# Altium integrated library Linear Technology Power Management Switching Regulator LTC1174-LTC3901.IntLib: 2647 symbols (part 21 of 364)
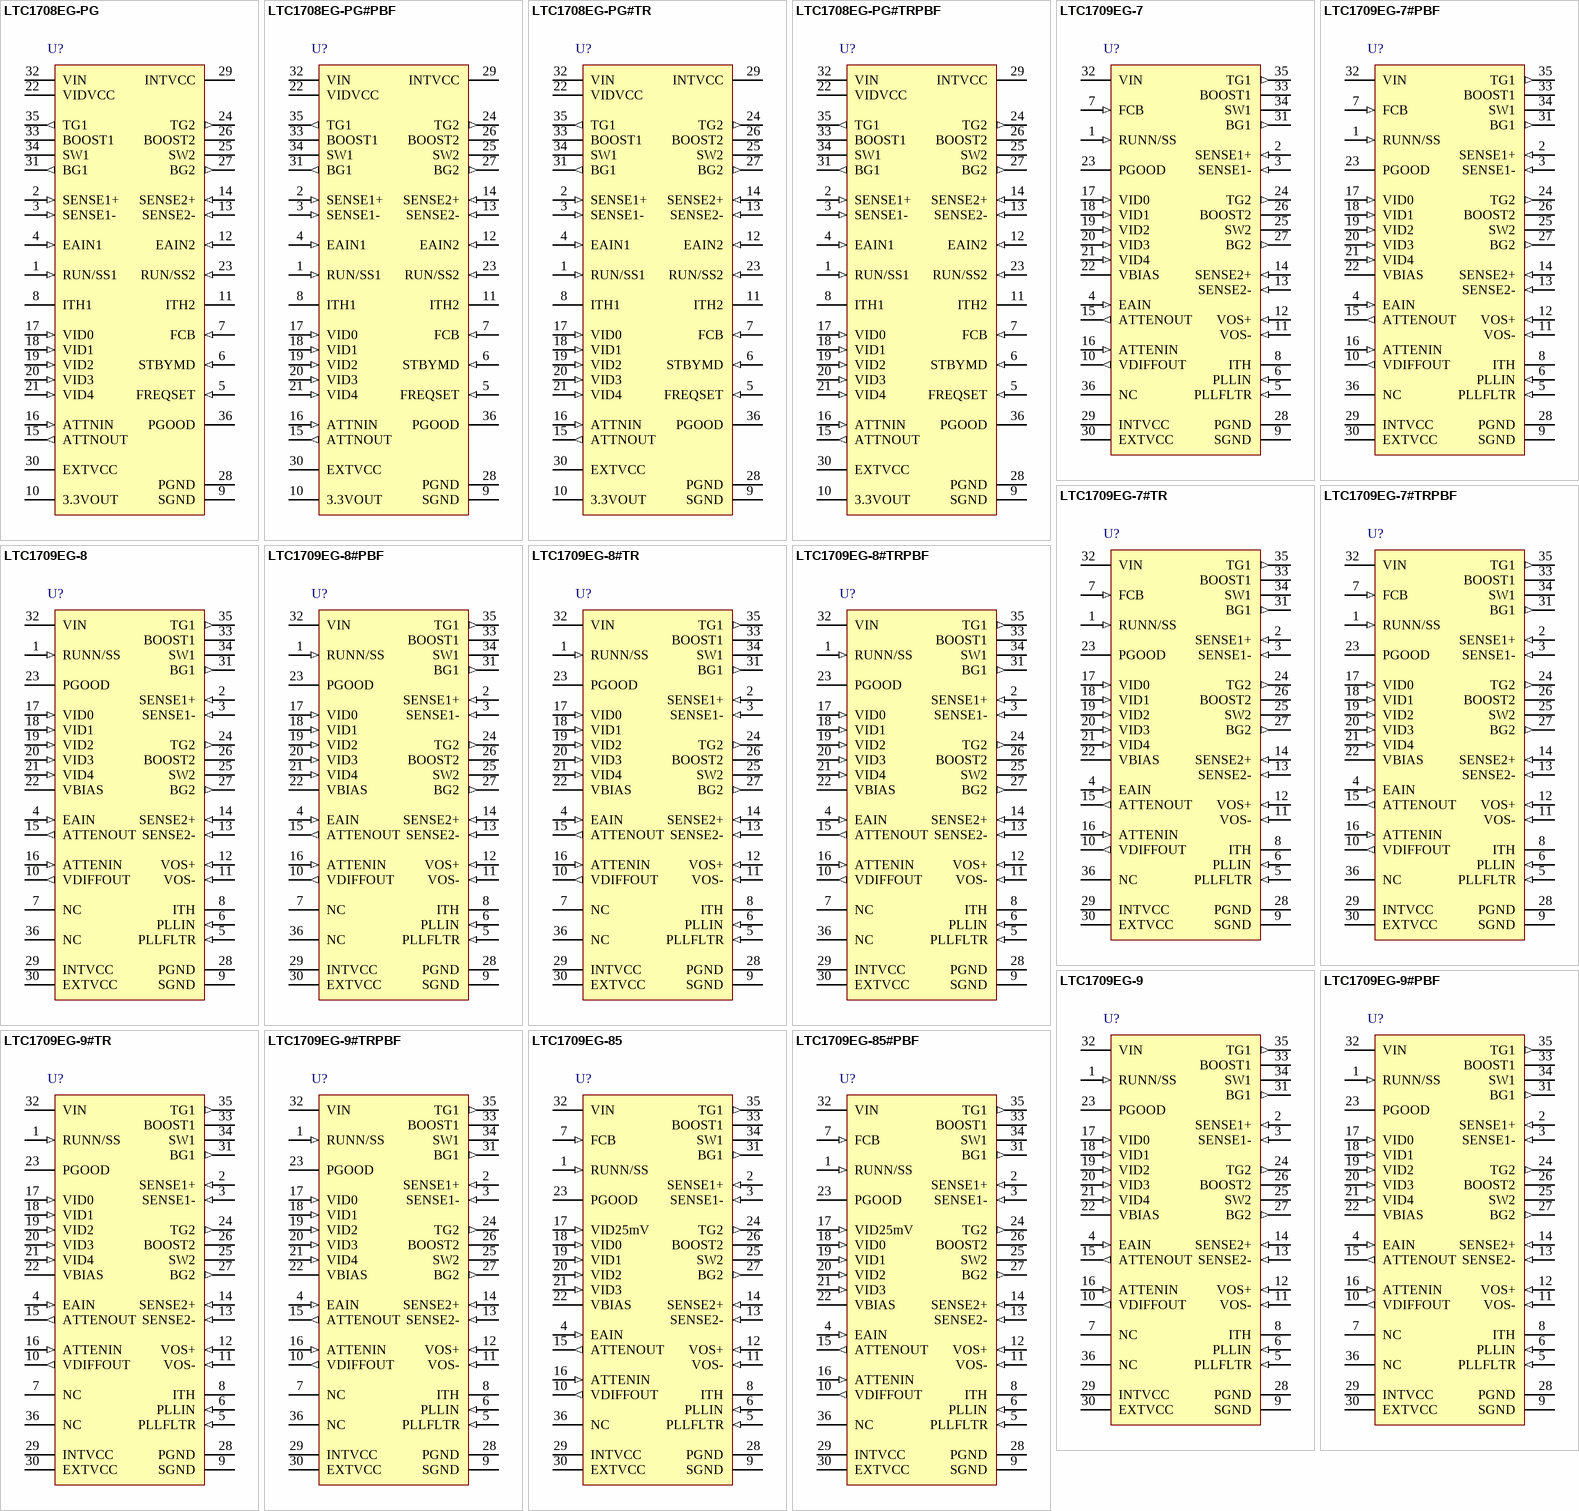
[diagram p126: symbols LTC1708EG-PG to LTC1709EG-85#PBF]

## LTC1709EG-7#TRPBF
designator U?
2-Phase, 5-Bit VID, Current Mode, High Efficiency, Synchronous Step-Down Switching Regulator, 36-pin SOP (G-36), -40 to 85 degC, Pb-Free, Tape and Reel; Manufacturer: Linear Technology; PartNumber: LTC1709EG-7#TRPBF; Number of Outputs: 1; PackageReference: G-36; PackageDescription: 36-Pin Plastic SSOP, Body 12.8 x 5.3 mm, Pitch 0.65 mm; Supplier 1: Digi-Key; Supplier Part Number 1: LTC1709EG-7#TRPBF-ND; Packing: Tape and Reel; RoHS: TRUE; Mounting Technology: Surface Mount; ComponentLink1Description: Manufacturer URL; ComponentLink1URL: http://www.linear.com/; ComponentLink2Description: Datasheet; ComponentLink2URL: http://cds.linear.com/docs/en/datasheet/17097f.pdf; ComponentLink3Description: Package Specification; ComponentLink3URL: http://cds.linear.com/docs/en/packaging/SSOP_36_05-08-1640.pdf
footprint LT-G-36_N (SOP, 36-Leads, Body 13.1x5.6mm, Pitch 0.65mm, IPC Medium Density)
footprint LT-G-36_L (SOP, 36-Leads, Body 13.1x5.6mm, Pitch 0.65mm, IPC High Density)
footprint LT-G-36_M (SOP, 36-Leads, Body 13.1x5.6mm, Pitch 0.65mm, IPC Low Density)
pins: 1 RUNN/SS (in) "Combination of Soft-Start, Run Control Input and Short-Circuit Detection Timer. A capacitor to ground at this pin sets the ramp time to full current output. Forcing this pin below 0.8V causes the IC to shut down all internal (See Datasheet)", 2 SENSE1+ (in) "The (+) Input to Each Differential Current Comparator. The ITH pin voltage and built-in offsets between SENSE- and SENSE+ pins in conjunction with RSENSE set the current trip threshold.", 3 SENSE1- (in) "The (-) Input to the Differential Current Comparators.", 4 EAIN (in) "Input to the error amplifier that compares the feedback voltage to the internal 0.8V reference voltage. This pin is normally connected to a resistive divider from the output of the differential amplifier (DIFFOUT).", 5 PLLFLTR (in) "The phase-locked loop’s lowpass filter is tied to this pin. Alternatively, this pin can be driven with an AC or DC voltage source to vary the frequency of the internal oscillator", 6 PLLIN (in) "External Synchronization Input to Phase Detector. This pin is internally terminated to SGND with 50kohm. The phase-locked loop will force the rising top gate signal of controller 1 to be synchronized with the rising edge of (See Datasheet)", 7 FCB (in) "Forced Continuous Control Input. This input acts on both output stages and can be used to regulate a secondary winding. Pulling this pin below 0.8V will force continuous synchronous operation. Do not leave this pin floating (See Datasheet)", 8 ITH "Error Amplifier Output and Switching Regulator Compensation Point. Both current comparator’s thresholds increase with this control voltage. The normal voltage range of this pin is from 0V to 2.4V", 9 SGND (power) "Signal Ground. This pin is common to both controllers. Route separately to the PGND pin.", 10 VDIFFOUT (out) "Output of a Differential Amplifier. This pin provides true remote output voltage sensing. VDIFFOUT normally drives an external resistive divider that sets the output voltage.", 11 VOS- (in) "Inputs to an Operational Amplifier. Internal precision resistors configure it as a differential amplifier whose output is VDIFFOUT.", 12 VOS+ (in) "Inputs to an Operational Amplifier. Internal precision resistors configure it as a differential amplifier whose output is VDIFFOUT.", 13 SENSE2- (in) "The (-) Input to the Differential Current Comparators.", 14 SENSE2+ (in) "The (+) Input to Each Differential Current Comparator. The ITH pin voltage and built-in offsets between SENSE- and SENSE+ pins in conjunction with RSENSE set the current trip threshold.", 15 ATTENOUT (out) "Voltage Feedback Signal Resistively Divided According to the VID Programming Code", 16 ATTENIN (in) "The Input to the VID Controlled Resistive Divider", 17 VID0 (in) "VID Control Logic Input Pins.", 18 VID1 (in) "VID Control Logic Input Pins.", 19 VID2 (in) "VID Control Logic Input Pins.", 20 VID3 (in) "VID Control Logic Input Pins.", 21 VID4 (in) "VID Control Logic Input Pins.", 22 VBIAS (power) "Supply Pin for the VID Control Circuit.", 23 PGOOD (oc) "Open-Drain Logic Output. PGOOD is pulled to ground when the voltage on the EAIN pin is not within +/-7.5% of its set point.", 24 TG2 (out) "High Current Gate Drives for Top N-Channel MOSFETS. These are the outputs of floating drivers with a voltage swing equal to INTVCC superimposed on the switch node voltage SW.", 25 SW2 "Switch Node Connections to Inductors. Voltage swing at these pins is from a Schottky diode (external) voltage drop below ground to VIN.", 26 BOOST2 "Bootstrapped Supplies to the Topside Floating Drivers. External capacitors are connected between the BOOST and SW pins, and Schottky diodes are connected between the BOOST and INTVCC pins.", 27 BG2 (out) "High Current Gate Drives for Bottom N-Channel MOSFETS. Voltage swing at these pins is from ground to INTVCC.", 28 PGND (power) "Driver Power Ground. Connect to sources of bottom N-channel MOSFETS and the (-) terminals of CIN.", 29 INTVCC (power) "Output of the Internal 5V Linear Low Dropout Regulator and the EXTVCC Switch. The driver and control circuits are powered from this voltage source. Decouple to power ground with a 1uF ceramic capacitor placed directly (See Datasheet)", 30 EXTVCC (power) "External Power Input to an Internal Switch. This switch closes and supplies INTVCC, bypassing the internal low dropout regulator whenever EXTVCC is higher than 4.7V. See EXTVCC Connection in the Applications Information (See Datasheet)", 31 BG1 (out) "High Current Gate Drives for Bottom N-Channel MOSFETS. Voltage swing at these pins is from ground to INTVCC.", 32 VIN (power) "Main Supply Pin. Should be closely decoupled to the IC’s signal ground pin.", 33 BOOST1 "Bootstrapped Supplies to the Topside Floating Drivers. External capacitors are connected between the BOOST and SW pins, and Schottky diodes are connected between the BOOST and INTVCC pins.", 34 SW1 "Switch Node Connections to Inductors. Voltage swing at these pins is from a Schottky diode (external) voltage drop below ground to VIN.", 35 TG1 (out) "High Current Gate Drives for Top N-Channel MOSFETS. These are the outputs of floating drivers with a voltage swing equal to INTVCC superimposed on the switch node voltage SW.", 36 NC "Do not connect."

## LTC1709EG-8
designator U?
2-Phase, 5-Bit VID, Current Mode, High Efficiency, Synchronous Step-Down Switching Regulator, 36-pin SOP (G-36), -40 to 85 degC; Manufacturer: Linear Technology; PartNumber: LTC1709EG-8; Number of Outputs: 1; PackageReference: G-36; PackageDescription: 36-Pin Plastic SSOP, Body 12.8 x 5.3 mm, Pitch 0.65 mm; Supplier 1: Digi-Key; Supplier Part Number 1: LTC1709EG-8-ND; RoHS: FALSE; Mounting Technology: Surface Mount; ComponentLink1Description: Manufacturer URL; ComponentLink1URL: http://www.linear.com/; ComponentLink2Description: Datasheet; ComponentLink2URL: http://cds.linear.com/docs/en/datasheet/170989f.pdf; ComponentLink3Description: Package Specification; ComponentLink3URL: http://cds.linear.com/docs/en/packaging/SSOP_36_05-08-1640.pdf
footprint LT-G-36_N (SOP, 36-Leads, Body 13.1x5.6mm, Pitch 0.65mm, IPC Medium Density)
footprint LT-G-36_L (SOP, 36-Leads, Body 13.1x5.6mm, Pitch 0.65mm, IPC High Density)
footprint LT-G-36_M (SOP, 36-Leads, Body 13.1x5.6mm, Pitch 0.65mm, IPC Low Density)
pins: 1 RUNN/SS (in) "Combination of Soft-Start, Run Control Input and Short-Circuit Detection Timer. A capacitor to ground at this pin sets the ramp time to full current output. Forcing this pin below 0.8V causes the IC to shut down all internal (See Datasheet)", 2 SENSE1+ (in) "The (+) Input to Each Differential Current Comparator. The ITH pin voltage and built-in offsets between SENSE- and SENSE+ pins in conjunction with RSENSE set the current trip threshold.", 3 SENSE1- (in) "The (-) Input to the Differential Current Comparators.", 4 EAIN (in) "Input to the error amplifier that compares the feedback voltage to the internal 0.8V reference voltage. This pin is normally connected to a resistive divider from the output of the differential amplifier (DIFFOUT).", 5 PLLFLTR (in) "The phase-locked loop’s lowpass filter is tied to this pin. Alternatively, this pin can be driven with an AC or DC voltage source to vary the frequency of the internal oscillator", 6 PLLIN (in) "External Synchronization Input to Phase Detector. This pin is internally terminated to SGND with 50kohm. The phase-locked loop will force the rising top gate signal of controller 1 to be synchronized with the rising edge of (See Datasheet)", 7 NC "Do not connect.", 8 ITH "Error Amplifier Output and Switching Regulator Compensation Point. Both current comparator’s thresholds increase with this control voltage. The normal voltage range of this pin is from 0V to 2.4V", 9 SGND (power) "Signal Ground. This pin is common to both controllers. Route separately to the PGND pin.", 10 VDIFFOUT (out) "Output of a Differential Amplifier. This pin provides true remote output voltage sensing. VDIFFOUT normally drives an external resistive divider that sets the output voltage.", 11 VOS- (in) "Inputs to an Operational Amplifier. Internal precision resistors capable of being electronically switched in or out can configure it as a differential amplifier or an uncommitted op amp.", 12 VOS+ (in) "Inputs to an Operational Amplifier. Internal precision resistors capable of being electronically switched in or out can configure it as a differential amplifier or an uncommitted op amp.", 13 SENSE2- (in) "The (-) Input to the Differential Current Comparators.", 14 SENSE2+ (in) "The (+) Input to Each Differential Current Comparator. The ITH pin voltage and built-in offsets between SENSE- and SENSE+ pins in conjunction with RSENSE set the current trip threshold.", 15 ATTENOUT (out) "Voltage Feedback Signal Resistively Divided According to the VID Programming Code", 16 ATTENIN (in) "The Input to the VID Controlled Resistive Divider", 17 VID0 (in) "VID Control Logic Input Pins.", 18 VID1 (in) "VID Control Logic Input Pins.", 19 VID2 (in) "VID Control Logic Input Pins.", 20 VID3 (in) "VID Control Logic Input Pins.", 21 VID4 (in) "VID Control Logic Input Pins.", 22 VBIAS (power) "Supply Pin for the VID Control Circuit.", 23 PGOOD (oc) "Open-Drain Logic Output. PGOOD is pulled to ground when the voltage on the EAIN pin is not within +/-7.5% of its set point.", 24 TG2 (out) "High Current Gate Drives for Top N-Channel MOSFETS. These are the outputs of floating drivers with a voltage swing equal to INTVCC superimposed on the switch node voltage SW.", 25 SW2 "Switch Node Connections to Inductors. Voltage swing at these pins is from a Schottky diode (external) voltage drop below ground to VIN.", 26 BOOST2 "Bootstrapped Supplies to the Topside Floating Drivers. External capacitors are connected between the BOOST and SW pins, and Schottky diodes are connected between the BOOST and INTVCC pins.", 27 BG2 (out) "High Current Gate Drives for Bottom N-Channel MOSFETS. Voltage swing at these pins is from ground to INTVCC.", 28 PGND (power) "Driver Power Ground. Connect to sources of bottom N-channel MOSFETS and the (-) terminals of CIN.", 29 INTVCC (power) "Output of the Internal 5V Linear Low Dropout Regulator and the EXTVCC Switch. The driver and control circuits are powered from this voltage source. Decouple to power ground with a 1uF ceramic capacitor placed directly (See Datasheet)", 30 EXTVCC (power) "External Power Input to an Internal Switch. This switch closes and supplies INTVCC, bypassing the internal low dropout regulator whenever EXTVCC is higher than 4.7V. See EXTVCC Connection in the Applications Information (See Datasheet)", 31 BG1 (out) "High Current Gate Drives for Bottom N-Channel MOSFETS. Voltage swing at these pins is from ground to INTVCC.", 32 VIN (power) "Main Supply Pin. Should be closely decoupled to the IC’s signal ground pin.", 33 BOOST1 "Bootstrapped Supplies to the Topside Floating Drivers. External capacitors are connected between the BOOST and SW pins, and Schottky diodes are connected between the BOOST and INTVCC pins.", 34 SW1 "Switch Node Connections to Inductors. Voltage swing at these pins is from a Schottky diode (external) voltage drop below ground to VIN.", 35 TG1 (out) "High Current Gate Drives for Top N-Channel MOSFETS. These are the outputs of floating drivers with a voltage swing equal to INTVCC superimposed on the switch node voltage SW.", 36 NC "Do not connect."

## LTC1709EG-8#PBF
designator U?
2-Phase, 5-Bit VID, Current Mode, High Efficiency, Synchronous Step-Down Switching Regulator, 36-pin SOP (G-36), -40 to 85 degC, Pb-Free; Manufacturer: Linear Technology; PartNumber: LTC1709EG-8#PBF; Number of Outputs: 1; PackageReference: G-36; PackageDescription: 36-Pin Plastic SSOP, Body 12.8 x 5.3 mm, Pitch 0.65 mm; Supplier 1: Digi-Key; Supplier Part Number 1: LTC1709EG-8#PBF-ND; RoHS: TRUE; Mounting Technology: Surface Mount; ComponentLink1Description: Manufacturer URL; ComponentLink1URL: http://www.linear.com/; ComponentLink2Description: Datasheet; ComponentLink2URL: http://cds.linear.com/docs/en/datasheet/170989f.pdf; ComponentLink3Description: Package Specification; ComponentLink3URL: http://cds.linear.com/docs/en/packaging/SSOP_36_05-08-1640.pdf
footprint LT-G-36_N (SOP, 36-Leads, Body 13.1x5.6mm, Pitch 0.65mm, IPC Medium Density)
footprint LT-G-36_L (SOP, 36-Leads, Body 13.1x5.6mm, Pitch 0.65mm, IPC High Density)
footprint LT-G-36_M (SOP, 36-Leads, Body 13.1x5.6mm, Pitch 0.65mm, IPC Low Density)
pins: 1 RUNN/SS (in) "Combination of Soft-Start, Run Control Input and Short-Circuit Detection Timer. A capacitor to ground at this pin sets the ramp time to full current output. Forcing this pin below 0.8V causes the IC to shut down all internal (See Datasheet)", 2 SENSE1+ (in) "The (+) Input to Each Differential Current Comparator. The ITH pin voltage and built-in offsets between SENSE- and SENSE+ pins in conjunction with RSENSE set the current trip threshold.", 3 SENSE1- (in) "The (-) Input to the Differential Current Comparators.", 4 EAIN (in) "Input to the error amplifier that compares the feedback voltage to the internal 0.8V reference voltage. This pin is normally connected to a resistive divider from the output of the differential amplifier (DIFFOUT).", 5 PLLFLTR (in) "The phase-locked loop’s lowpass filter is tied to this pin. Alternatively, this pin can be driven with an AC or DC voltage source to vary the frequency of the internal oscillator", 6 PLLIN (in) "External Synchronization Input to Phase Detector. This pin is internally terminated to SGND with 50kohm. The phase-locked loop will force the rising top gate signal of controller 1 to be synchronized with the rising edge of (See Datasheet)", 7 NC "Do not connect.", 8 ITH "Error Amplifier Output and Switching Regulator Compensation Point. Both current comparator’s thresholds increase with this control voltage. The normal voltage range of this pin is from 0V to 2.4V", 9 SGND (power) "Signal Ground. This pin is common to both controllers. Route separately to the PGND pin.", 10 VDIFFOUT (out) "Output of a Differential Amplifier. This pin provides true remote output voltage sensing. VDIFFOUT normally drives an external resistive divider that sets the output voltage.", 11 VOS- (in) "Inputs to an Operational Amplifier. Internal precision resistors capable of being electronically switched in or out can configure it as a differential amplifier or an uncommitted op amp.", 12 VOS+ (in) "Inputs to an Operational Amplifier. Internal precision resistors capable of being electronically switched in or out can configure it as a differential amplifier or an uncommitted op amp.", 13 SENSE2- (in) "The (-) Input to the Differential Current Comparators.", 14 SENSE2+ (in) "The (+) Input to Each Differential Current Comparator. The ITH pin voltage and built-in offsets between SENSE- and SENSE+ pins in conjunction with RSENSE set the current trip threshold.", 15 ATTENOUT (out) "Voltage Feedback Signal Resistively Divided According to the VID Programming Code", 16 ATTENIN (in) "The Input to the VID Controlled Resistive Divider", 17 VID0 (in) "VID Control Logic Input Pins.", 18 VID1 (in) "VID Control Logic Input Pins.", 19 VID2 (in) "VID Control Logic Input Pins.", 20 VID3 (in) "VID Control Logic Input Pins.", 21 VID4 (in) "VID Control Logic Input Pins.", 22 VBIAS (power) "Supply Pin for the VID Control Circuit.", 23 PGOOD (oc) "Open-Drain Logic Output. PGOOD is pulled to ground when the voltage on the EAIN pin is not within +/-7.5% of its set point.", 24 TG2 (out) "High Current Gate Drives for Top N-Channel MOSFETS. These are the outputs of floating drivers with a voltage swing equal to INTVCC superimposed on the switch node voltage SW.", 25 SW2 "Switch Node Connections to Inductors. Voltage swing at these pins is from a Schottky diode (external) voltage drop below ground to VIN.", 26 BOOST2 "Bootstrapped Supplies to the Topside Floating Drivers. External capacitors are connected between the BOOST and SW pins, and Schottky diodes are connected between the BOOST and INTVCC pins.", 27 BG2 (out) "High Current Gate Drives for Bottom N-Channel MOSFETS. Voltage swing at these pins is from ground to INTVCC.", 28 PGND (power) "Driver Power Ground. Connect to sources of bottom N-channel MOSFETS and the (-) terminals of CIN.", 29 INTVCC (power) "Output of the Internal 5V Linear Low Dropout Regulator and the EXTVCC Switch. The driver and control circuits are powered from this voltage source. Decouple to power ground with a 1uF ceramic capacitor placed directly (See Datasheet)", 30 EXTVCC (power) "External Power Input to an Internal Switch. This switch closes and supplies INTVCC, bypassing the internal low dropout regulator whenever EXTVCC is higher than 4.7V. See EXTVCC Connection in the Applications Information (See Datasheet)", 31 BG1 (out) "High Current Gate Drives for Bottom N-Channel MOSFETS. Voltage swing at these pins is from ground to INTVCC.", 32 VIN (power) "Main Supply Pin. Should be closely decoupled to the IC’s signal ground pin.", 33 BOOST1 "Bootstrapped Supplies to the Topside Floating Drivers. External capacitors are connected between the BOOST and SW pins, and Schottky diodes are connected between the BOOST and INTVCC pins.", 34 SW1 "Switch Node Connections to Inductors. Voltage swing at these pins is from a Schottky diode (external) voltage drop below ground to VIN.", 35 TG1 (out) "High Current Gate Drives for Top N-Channel MOSFETS. These are the outputs of floating drivers with a voltage swing equal to INTVCC superimposed on the switch node voltage SW.", 36 NC "Do not connect."

## LTC1709EG-8#TR
designator U?
2-Phase, 5-Bit VID, Current Mode, High Efficiency, Synchronous Step-Down Switching Regulator, 36-pin SOP (G-36), -40 to 85 degC, Tape and Reel; Manufacturer: Linear Technology; PartNumber: LTC1709EG-8#TR; Number of Outputs: 1; PackageReference: G-36; PackageDescription: 36-Pin Plastic SSOP, Body 12.8 x 5.3 mm, Pitch 0.65 mm; Supplier 1: Digi-Key; Supplier Part Number 1: LTC1709EG-8#TR-ND; Packing: Tape and Reel; RoHS: FALSE; Mounting Technology: Surface Mount; ComponentLink1Description: Manufacturer URL; ComponentLink1URL: http://www.linear.com/; ComponentLink2Description: Datasheet; ComponentLink2URL: http://cds.linear.com/docs/en/datasheet/170989f.pdf; ComponentLink3Description: Package Specification; ComponentLink3URL: http://cds.linear.com/docs/en/packaging/SSOP_36_05-08-1640.pdf
footprint LT-G-36_N (SOP, 36-Leads, Body 13.1x5.6mm, Pitch 0.65mm, IPC Medium Density)
footprint LT-G-36_L (SOP, 36-Leads, Body 13.1x5.6mm, Pitch 0.65mm, IPC High Density)
footprint LT-G-36_M (SOP, 36-Leads, Body 13.1x5.6mm, Pitch 0.65mm, IPC Low Density)
pins: 1 RUNN/SS (in) "Combination of Soft-Start, Run Control Input and Short-Circuit Detection Timer. A capacitor to ground at this pin sets the ramp time to full current output. Forcing this pin below 0.8V causes the IC to shut down all internal (See Datasheet)", 2 SENSE1+ (in) "The (+) Input to Each Differential Current Comparator. The ITH pin voltage and built-in offsets between SENSE- and SENSE+ pins in conjunction with RSENSE set the current trip threshold.", 3 SENSE1- (in) "The (-) Input to the Differential Current Comparators.", 4 EAIN (in) "Input to the error amplifier that compares the feedback voltage to the internal 0.8V reference voltage. This pin is normally connected to a resistive divider from the output of the differential amplifier (DIFFOUT).", 5 PLLFLTR (in) "The phase-locked loop’s lowpass filter is tied to this pin. Alternatively, this pin can be driven with an AC or DC voltage source to vary the frequency of the internal oscillator", 6 PLLIN (in) "External Synchronization Input to Phase Detector. This pin is internally terminated to SGND with 50kohm. The phase-locked loop will force the rising top gate signal of controller 1 to be synchronized with the rising edge of (See Datasheet)", 7 NC "Do not connect.", 8 ITH "Error Amplifier Output and Switching Regulator Compensation Point. Both current comparator’s thresholds increase with this control voltage. The normal voltage range of this pin is from 0V to 2.4V", 9 SGND (power) "Signal Ground. This pin is common to both controllers. Route separately to the PGND pin.", 10 VDIFFOUT (out) "Output of a Differential Amplifier. This pin provides true remote output voltage sensing. VDIFFOUT normally drives an external resistive divider that sets the output voltage.", 11 VOS- (in) "Inputs to an Operational Amplifier. Internal precision resistors capable of being electronically switched in or out can configure it as a differential amplifier or an uncommitted op amp.", 12 VOS+ (in) "Inputs to an Operational Amplifier. Internal precision resistors capable of being electronically switched in or out can configure it as a differential amplifier or an uncommitted op amp.", 13 SENSE2- (in) "The (-) Input to the Differential Current Comparators.", 14 SENSE2+ (in) "The (+) Input to Each Differential Current Comparator. The ITH pin voltage and built-in offsets between SENSE- and SENSE+ pins in conjunction with RSENSE set the current trip threshold.", 15 ATTENOUT (out) "Voltage Feedback Signal Resistively Divided According to the VID Programming Code", 16 ATTENIN (in) "The Input to the VID Controlled Resistive Divider", 17 VID0 (in) "VID Control Logic Input Pins.", 18 VID1 (in) "VID Control Logic Input Pins.", 19 VID2 (in) "VID Control Logic Input Pins.", 20 VID3 (in) "VID Control Logic Input Pins.", 21 VID4 (in) "VID Control Logic Input Pins.", 22 VBIAS (power) "Supply Pin for the VID Control Circuit.", 23 PGOOD (oc) "Open-Drain Logic Output. PGOOD is pulled to ground when the voltage on the EAIN pin is not within +/-7.5% of its set point.", 24 TG2 (out) "High Current Gate Drives for Top N-Channel MOSFETS. These are the outputs of floating drivers with a voltage swing equal to INTVCC superimposed on the switch node voltage SW.", 25 SW2 "Switch Node Connections to Inductors. Voltage swing at these pins is from a Schottky diode (external) voltage drop below ground to VIN.", 26 BOOST2 "Bootstrapped Supplies to the Topside Floating Drivers. External capacitors are connected between the BOOST and SW pins, and Schottky diodes are connected between the BOOST and INTVCC pins.", 27 BG2 (out) "High Current Gate Drives for Bottom N-Channel MOSFETS. Voltage swing at these pins is from ground to INTVCC.", 28 PGND (power) "Driver Power Ground. Connect to sources of bottom N-channel MOSFETS and the (-) terminals of CIN.", 29 INTVCC (power) "Output of the Internal 5V Linear Low Dropout Regulator and the EXTVCC Switch. The driver and control circuits are powered from this voltage source. Decouple to power ground with a 1uF ceramic capacitor placed directly (See Datasheet)", 30 EXTVCC (power) "External Power Input to an Internal Switch. This switch closes and supplies INTVCC, bypassing the internal low dropout regulator whenever EXTVCC is higher than 4.7V. See EXTVCC Connection in the Applications Information (See Datasheet)", 31 BG1 (out) "High Current Gate Drives for Bottom N-Channel MOSFETS. Voltage swing at these pins is from ground to INTVCC.", 32 VIN (power) "Main Supply Pin. Should be closely decoupled to the IC’s signal ground pin.", 33 BOOST1 "Bootstrapped Supplies to the Topside Floating Drivers. External capacitors are connected between the BOOST and SW pins, and Schottky diodes are connected between the BOOST and INTVCC pins.", 34 SW1 "Switch Node Connections to Inductors. Voltage swing at these pins is from a Schottky diode (external) voltage drop below ground to VIN.", 35 TG1 (out) "High Current Gate Drives for Top N-Channel MOSFETS. These are the outputs of floating drivers with a voltage swing equal to INTVCC superimposed on the switch node voltage SW.", 36 NC "Do not connect."

## LTC1709EG-8#TRPBF
designator U?
2-Phase, 5-Bit VID, Current Mode, High Efficiency, Synchronous Step-Down Switching Regulator, 36-pin SOP (G-36), -40 to 85 degC, Pb-Free, Tape and Reel; Manufacturer: Linear Technology; PartNumber: LTC1709EG-8#TRPBF; Number of Outputs: 1; PackageReference: G-36; PackageDescription: 36-Pin Plastic SSOP, Body 12.8 x 5.3 mm, Pitch 0.65 mm; Supplier 1: Digi-Key; Supplier Part Number 1: LTC1709EG-8#TRPBF-ND; Packing: Tape and Reel; RoHS: TRUE; Mounting Technology: Surface Mount; ComponentLink1Description: Manufacturer URL; ComponentLink1URL: http://www.linear.com/; ComponentLink2Description: Datasheet; ComponentLink2URL: http://cds.linear.com/docs/en/datasheet/170989f.pdf; ComponentLink3Description: Package Specification; ComponentLink3URL: http://cds.linear.com/docs/en/packaging/SSOP_36_05-08-1640.pdf
footprint LT-G-36_N (SOP, 36-Leads, Body 13.1x5.6mm, Pitch 0.65mm, IPC Medium Density)
footprint LT-G-36_L (SOP, 36-Leads, Body 13.1x5.6mm, Pitch 0.65mm, IPC High Density)
footprint LT-G-36_M (SOP, 36-Leads, Body 13.1x5.6mm, Pitch 0.65mm, IPC Low Density)
pins: 1 RUNN/SS (in) "Combination of Soft-Start, Run Control Input and Short-Circuit Detection Timer. A capacitor to ground at this pin sets the ramp time to full current output. Forcing this pin below 0.8V causes the IC to shut down all internal (See Datasheet)", 2 SENSE1+ (in) "The (+) Input to Each Differential Current Comparator. The ITH pin voltage and built-in offsets between SENSE- and SENSE+ pins in conjunction with RSENSE set the current trip threshold.", 3 SENSE1- (in) "The (-) Input to the Differential Current Comparators.", 4 EAIN (in) "Input to the error amplifier that compares the feedback voltage to the internal 0.8V reference voltage. This pin is normally connected to a resistive divider from the output of the differential amplifier (DIFFOUT).", 5 PLLFLTR (in) "The phase-locked loop’s lowpass filter is tied to this pin. Alternatively, this pin can be driven with an AC or DC voltage source to vary the frequency of the internal oscillator", 6 PLLIN (in) "External Synchronization Input to Phase Detector. This pin is internally terminated to SGND with 50kohm. The phase-locked loop will force the rising top gate signal of controller 1 to be synchronized with the rising edge of (See Datasheet)", 7 NC "Do not connect.", 8 ITH "Error Amplifier Output and Switching Regulator Compensation Point. Both current comparator’s thresholds increase with this control voltage. The normal voltage range of this pin is from 0V to 2.4V", 9 SGND (power) "Signal Ground. This pin is common to both controllers. Route separately to the PGND pin.", 10 VDIFFOUT (out) "Output of a Differential Amplifier. This pin provides true remote output voltage sensing. VDIFFOUT normally drives an external resistive divider that sets the output voltage.", 11 VOS- (in) "Inputs to an Operational Amplifier. Internal precision resistors capable of being electronically switched in or out can configure it as a differential amplifier or an uncommitted op amp.", 12 VOS+ (in) "Inputs to an Operational Amplifier. Internal precision resistors capable of being electronically switched in or out can configure it as a differential amplifier or an uncommitted op amp.", 13 SENSE2- (in) "The (-) Input to the Differential Current Comparators.", 14 SENSE2+ (in) "The (+) Input to Each Differential Current Comparator. The ITH pin voltage and built-in offsets between SENSE- and SENSE+ pins in conjunction with RSENSE set the current trip threshold.", 15 ATTENOUT (out) "Voltage Feedback Signal Resistively Divided According to the VID Programming Code", 16 ATTENIN (in) "The Input to the VID Controlled Resistive Divider", 17 VID0 (in) "VID Control Logic Input Pins.", 18 VID1 (in) "VID Control Logic Input Pins.", 19 VID2 (in) "VID Control Logic Input Pins.", 20 VID3 (in) "VID Control Logic Input Pins.", 21 VID4 (in) "VID Control Logic Input Pins.", 22 VBIAS (power) "Supply Pin for the VID Control Circuit.", 23 PGOOD (oc) "Open-Drain Logic Output. PGOOD is pulled to ground when the voltage on the EAIN pin is not within +/-7.5% of its set point.", 24 TG2 (out) "High Current Gate Drives for Top N-Channel MOSFETS. These are the outputs of floating drivers with a voltage swing equal to INTVCC superimposed on the switch node voltage SW.", 25 SW2 "Switch Node Connections to Inductors. Voltage swing at these pins is from a Schottky diode (external) voltage drop below ground to VIN.", 26 BOOST2 "Bootstrapped Supplies to the Topside Floating Drivers. External capacitors are connected between the BOOST and SW pins, and Schottky diodes are connected between the BOOST and INTVCC pins.", 27 BG2 (out) "High Current Gate Drives for Bottom N-Channel MOSFETS. Voltage swing at these pins is from ground to INTVCC.", 28 PGND (power) "Driver Power Ground. Connect to sources of bottom N-channel MOSFETS and the (-) terminals of CIN.", 29 INTVCC (power) "Output of the Internal 5V Linear Low Dropout Regulator and the EXTVCC Switch. The driver and control circuits are powered from this voltage source. Decouple to power ground with a 1uF ceramic capacitor placed directly (See Datasheet)", 30 EXTVCC (power) "External Power Input to an Internal Switch. This switch closes and supplies INTVCC, bypassing the internal low dropout regulator whenever EXTVCC is higher than 4.7V. See EXTVCC Connection in the Applications Information (See Datasheet)", 31 BG1 (out) "High Current Gate Drives for Bottom N-Channel MOSFETS. Voltage swing at these pins is from ground to INTVCC.", 32 VIN (power) "Main Supply Pin. Should be closely decoupled to the IC’s signal ground pin.", 33 BOOST1 "Bootstrapped Supplies to the Topside Floating Drivers. External capacitors are connected between the BOOST and SW pins, and Schottky diodes are connected between the BOOST and INTVCC pins.", 34 SW1 "Switch Node Connections to Inductors. Voltage swing at these pins is from a Schottky diode (external) voltage drop below ground to VIN.", 35 TG1 (out) "High Current Gate Drives for Top N-Channel MOSFETS. These are the outputs of floating drivers with a voltage swing equal to INTVCC superimposed on the switch node voltage SW.", 36 NC "Do not connect."

## LTC1709EG-9
designator U?
2-Phase, 5-Bit VID, Current Mode, High Efficiency, Synchronous Step-Down Switching Regulator, 36-pin SOP (G-36), -40 to 85 degC; Manufacturer: Linear Technology; PartNumber: LTC1709EG-9; Number of Outputs: 1; PackageReference: G-36; PackageDescription: 36-Pin Plastic SSOP, Body 12.8 x 5.3 mm, Pitch 0.65 mm; Supplier 1: Digi-Key; Supplier Part Number 1: LTC1709EG-9-ND; RoHS: FALSE; Mounting Technology: Surface Mount; ComponentLink1Description: Manufacturer URL; ComponentLink1URL: http://www.linear.com/; ComponentLink2Description: Datasheet; ComponentLink2URL: http://cds.linear.com/docs/en/datasheet/170989f.pdf; ComponentLink3Description: Package Specification; ComponentLink3URL: http://cds.linear.com/docs/en/packaging/SSOP_36_05-08-1640.pdf
footprint LT-G-36_N (SOP, 36-Leads, Body 13.1x5.6mm, Pitch 0.65mm, IPC Medium Density)
footprint LT-G-36_L (SOP, 36-Leads, Body 13.1x5.6mm, Pitch 0.65mm, IPC High Density)
footprint LT-G-36_M (SOP, 36-Leads, Body 13.1x5.6mm, Pitch 0.65mm, IPC Low Density)
pins: 1 RUNN/SS (in) "Combination of Soft-Start, Run Control Input and Short-Circuit Detection Timer. A capacitor to ground at this pin sets the ramp time to full current output. Forcing this pin below 0.8V causes the IC to shut down all internal (See Datasheet)", 2 SENSE1+ (in) "The (+) Input to Each Differential Current Comparator. The ITH pin voltage and built-in offsets between SENSE- and SENSE+ pins in conjunction with RSENSE set the current trip threshold.", 3 SENSE1- (in) "The (-) Input to the Differential Current Comparators.", 4 EAIN (in) "Input to the error amplifier that compares the feedback voltage to the internal 0.8V reference voltage. This pin is normally connected to a resistive divider from the output of the differential amplifier (DIFFOUT).", 5 PLLFLTR (in) "The phase-locked loop’s lowpass filter is tied to this pin. Alternatively, this pin can be driven with an AC or DC voltage source to vary the frequency of the internal oscillator", 6 PLLIN (in) "External Synchronization Input to Phase Detector. This pin is internally terminated to SGND with 50kohm. The phase-locked loop will force the rising top gate signal of controller 1 to be synchronized with the rising edge of (See Datasheet)", 7 NC "Do not connect.", 8 ITH "Error Amplifier Output and Switching Regulator Compensation Point. Both current comparator’s thresholds increase with this control voltage. The normal voltage range of this pin is from 0V to 2.4V", 9 SGND (power) "Signal Ground. This pin is common to both controllers. Route separately to the PGND pin.", 10 VDIFFOUT (out) "Output of a Differential Amplifier. This pin provides true remote output voltage sensing. VDIFFOUT normally drives an external resistive divider that sets the output voltage.", 11 VOS- (in) "Inputs to an Operational Amplifier. Internal precision resistors capable of being electronically switched in or out can configure it as a differential amplifier or an uncommitted op amp.", 12 VOS+ (in) "Inputs to an Operational Amplifier. Internal precision resistors capable of being electronically switched in or out can configure it as a differential amplifier or an uncommitted op amp.", 13 SENSE2- (in) "The (-) Input to the Differential Current Comparators.", 14 SENSE2+ (in) "The (+) Input to Each Differential Current Comparator. The ITH pin voltage and built-in offsets between SENSE- and SENSE+ pins in conjunction with RSENSE set the current trip threshold.", 15 ATTENOUT (out) "Voltage Feedback Signal Resistively Divided According to the VID Programming Code", 16 ATTENIN (in) "The Input to the VID Controlled Resistive Divider", 17 VID0 (in) "VID Control Logic Input Pins.", 18 VID1 (in) "VID Control Logic Input Pins.", 19 VID2 (in) "VID Control Logic Input Pins.", 20 VID3 (in) "VID Control Logic Input Pins.", 21 VID4 (in) "VID Control Logic Input Pins.", 22 VBIAS (power) "Supply Pin for the VID Control Circuit.", 23 PGOOD (oc) "Open-Drain Logic Output. PGOOD is pulled to ground when the voltage on the EAIN pin is not within +/-7.5% of its set point.", 24 TG2 (out) "High Current Gate Drives for Top N-Channel MOSFETS. These are the outputs of floating drivers with a voltage swing equal to INTVCC superimposed on the switch node voltage SW.", 25 SW2 "Switch Node Connections to Inductors. Voltage swing at these pins is from a Schottky diode (external) voltage drop below ground to VIN.", 26 BOOST2 "Bootstrapped Supplies to the Topside Floating Drivers. External capacitors are connected between the BOOST and SW pins, and Schottky diodes are connected between the BOOST and INTVCC pins.", 27 BG2 (out) "High Current Gate Drives for Bottom N-Channel MOSFETS. Voltage swing at these pins is from ground to INTVCC.", 28 PGND (power) "Driver Power Ground. Connect to sources of bottom N-channel MOSFETS and the (-) terminals of CIN.", 29 INTVCC (power) "Output of the Internal 5V Linear Low Dropout Regulator and the EXTVCC Switch. The driver and control circuits are powered from this voltage source. Decouple to power ground with a 1uF ceramic capacitor placed directly (See Datasheet)", 30 EXTVCC (power) "External Power Input to an Internal Switch. This switch closes and supplies INTVCC, bypassing the internal low dropout regulator whenever EXTVCC is higher than 4.7V. See EXTVCC Connection in the Applications Information (See Datasheet)", 31 BG1 (out) "High Current Gate Drives for Bottom N-Channel MOSFETS. Voltage swing at these pins is from ground to INTVCC.", 32 VIN (power) "Main Supply Pin. Should be closely decoupled to the IC’s signal ground pin.", 33 BOOST1 "Bootstrapped Supplies to the Topside Floating Drivers. External capacitors are connected between the BOOST and SW pins, and Schottky diodes are connected between the BOOST and INTVCC pins.", 34 SW1 "Switch Node Connections to Inductors. Voltage swing at these pins is from a Schottky diode (external) voltage drop below ground to VIN.", 35 TG1 (out) "High Current Gate Drives for Top N-Channel MOSFETS. These are the outputs of floating drivers with a voltage swing equal to INTVCC superimposed on the switch node voltage SW.", 36 NC "Do not connect."

## LTC1709EG-9#PBF
designator U?
2-Phase, 5-Bit VID, Current Mode, High Efficiency, Synchronous Step-Down Switching Regulator, 36-pin SOP (G-36), -40 to 85 degC, Pb-Free; Manufacturer: Linear Technology; PartNumber: LTC1709EG-9#PBF; Number of Outputs: 1; PackageReference: G-36; PackageDescription: 36-Pin Plastic SSOP, Body 12.8 x 5.3 mm, Pitch 0.65 mm; Supplier 1: Digi-Key; Supplier Part Number 1: LTC1709EG-9#PBF-ND; RoHS: TRUE; Mounting Technology: Surface Mount; ComponentLink1Description: Manufacturer URL; ComponentLink1URL: http://www.linear.com/; ComponentLink2Description: Datasheet; ComponentLink2URL: http://cds.linear.com/docs/en/datasheet/170989f.pdf; ComponentLink3Description: Package Specification; ComponentLink3URL: http://cds.linear.com/docs/en/packaging/SSOP_36_05-08-1640.pdf
footprint LT-G-36_N (SOP, 36-Leads, Body 13.1x5.6mm, Pitch 0.65mm, IPC Medium Density)
footprint LT-G-36_L (SOP, 36-Leads, Body 13.1x5.6mm, Pitch 0.65mm, IPC High Density)
footprint LT-G-36_M (SOP, 36-Leads, Body 13.1x5.6mm, Pitch 0.65mm, IPC Low Density)
pins: 1 RUNN/SS (in) "Combination of Soft-Start, Run Control Input and Short-Circuit Detection Timer. A capacitor to ground at this pin sets the ramp time to full current output. Forcing this pin below 0.8V causes the IC to shut down all internal (See Datasheet)", 2 SENSE1+ (in) "The (+) Input to Each Differential Current Comparator. The ITH pin voltage and built-in offsets between SENSE- and SENSE+ pins in conjunction with RSENSE set the current trip threshold.", 3 SENSE1- (in) "The (-) Input to the Differential Current Comparators.", 4 EAIN (in) "Input to the error amplifier that compares the feedback voltage to the internal 0.8V reference voltage. This pin is normally connected to a resistive divider from the output of the differential amplifier (DIFFOUT).", 5 PLLFLTR (in) "The phase-locked loop’s lowpass filter is tied to this pin. Alternatively, this pin can be driven with an AC or DC voltage source to vary the frequency of the internal oscillator", 6 PLLIN (in) "External Synchronization Input to Phase Detector. This pin is internally terminated to SGND with 50kohm. The phase-locked loop will force the rising top gate signal of controller 1 to be synchronized with the rising edge of (See Datasheet)", 7 NC "Do not connect.", 8 ITH "Error Amplifier Output and Switching Regulator Compensation Point. Both current comparator’s thresholds increase with this control voltage. The normal voltage range of this pin is from 0V to 2.4V", 9 SGND (power) "Signal Ground. This pin is common to both controllers. Route separately to the PGND pin.", 10 VDIFFOUT (out) "Output of a Differential Amplifier. This pin provides true remote output voltage sensing. VDIFFOUT normally drives an external resistive divider that sets the output voltage.", 11 VOS- (in) "Inputs to an Operational Amplifier. Internal precision resistors capable of being electronically switched in or out can configure it as a differential amplifier or an uncommitted op amp.", 12 VOS+ (in) "Inputs to an Operational Amplifier. Internal precision resistors capable of being electronically switched in or out can configure it as a differential amplifier or an uncommitted op amp.", 13 SENSE2- (in) "The (-) Input to the Differential Current Comparators.", 14 SENSE2+ (in) "The (+) Input to Each Differential Current Comparator. The ITH pin voltage and built-in offsets between SENSE- and SENSE+ pins in conjunction with RSENSE set the current trip threshold.", 15 ATTENOUT (out) "Voltage Feedback Signal Resistively Divided According to the VID Programming Code", 16 ATTENIN (in) "The Input to the VID Controlled Resistive Divider", 17 VID0 (in) "VID Control Logic Input Pins.", 18 VID1 (in) "VID Control Logic Input Pins.", 19 VID2 (in) "VID Control Logic Input Pins.", 20 VID3 (in) "VID Control Logic Input Pins.", 21 VID4 (in) "VID Control Logic Input Pins.", 22 VBIAS (power) "Supply Pin for the VID Control Circuit.", 23 PGOOD (oc) "Open-Drain Logic Output. PGOOD is pulled to ground when the voltage on the EAIN pin is not within +/-7.5% of its set point.", 24 TG2 (out) "High Current Gate Drives for Top N-Channel MOSFETS. These are the outputs of floating drivers with a voltage swing equal to INTVCC superimposed on the switch node voltage SW.", 25 SW2 "Switch Node Connections to Inductors. Voltage swing at these pins is from a Schottky diode (external) voltage drop below ground to VIN.", 26 BOOST2 "Bootstrapped Supplies to the Topside Floating Drivers. External capacitors are connected between the BOOST and SW pins, and Schottky diodes are connected between the BOOST and INTVCC pins.", 27 BG2 (out) "High Current Gate Drives for Bottom N-Channel MOSFETS. Voltage swing at these pins is from ground to INTVCC.", 28 PGND (power) "Driver Power Ground. Connect to sources of bottom N-channel MOSFETS and the (-) terminals of CIN.", 29 INTVCC (power) "Output of the Internal 5V Linear Low Dropout Regulator and the EXTVCC Switch. The driver and control circuits are powered from this voltage source. Decouple to power ground with a 1uF ceramic capacitor placed directly (See Datasheet)", 30 EXTVCC (power) "External Power Input to an Internal Switch. This switch closes and supplies INTVCC, bypassing the internal low dropout regulator whenever EXTVCC is higher than 4.7V. See EXTVCC Connection in the Applications Information (See Datasheet)", 31 BG1 (out) "High Current Gate Drives for Bottom N-Channel MOSFETS. Voltage swing at these pins is from ground to INTVCC.", 32 VIN (power) "Main Supply Pin. Should be closely decoupled to the IC’s signal ground pin.", 33 BOOST1 "Bootstrapped Supplies to the Topside Floating Drivers. External capacitors are connected between the BOOST and SW pins, and Schottky diodes are connected between the BOOST and INTVCC pins.", 34 SW1 "Switch Node Connections to Inductors. Voltage swing at these pins is from a Schottky diode (external) voltage drop below ground to VIN.", 35 TG1 (out) "High Current Gate Drives for Top N-Channel MOSFETS. These are the outputs of floating drivers with a voltage swing equal to INTVCC superimposed on the switch node voltage SW.", 36 NC "Do not connect."

## LTC1709EG-9#TR
designator U?
2-Phase, 5-Bit VID, Current Mode, High Efficiency, Synchronous Step-Down Switching Regulator, 36-pin SOP (G-36), -40 to 85 degC, Tape and Reel; Manufacturer: Linear Technology; PartNumber: LTC1709EG-9#TR; Number of Outputs: 1; PackageReference: G-36; PackageDescription: 36-Pin Plastic SSOP, Body 12.8 x 5.3 mm, Pitch 0.65 mm; Supplier 1: Digi-Key; Supplier Part Number 1: LTC1709EG-9#TR-ND; Packing: Tape and Reel; RoHS: FALSE; Mounting Technology: Surface Mount; ComponentLink1Description: Manufacturer URL; ComponentLink1URL: http://www.linear.com/; ComponentLink2Description: Datasheet; ComponentLink2URL: http://cds.linear.com/docs/en/datasheet/170989f.pdf; ComponentLink3Description: Package Specification; ComponentLink3URL: http://cds.linear.com/docs/en/packaging/SSOP_36_05-08-1640.pdf
footprint LT-G-36_N (SOP, 36-Leads, Body 13.1x5.6mm, Pitch 0.65mm, IPC Medium Density)
footprint LT-G-36_L (SOP, 36-Leads, Body 13.1x5.6mm, Pitch 0.65mm, IPC High Density)
footprint LT-G-36_M (SOP, 36-Leads, Body 13.1x5.6mm, Pitch 0.65mm, IPC Low Density)
pins: 1 RUNN/SS (in) "Combination of Soft-Start, Run Control Input and Short-Circuit Detection Timer. A capacitor to ground at this pin sets the ramp time to full current output. Forcing this pin below 0.8V causes the IC to shut down all internal (See Datasheet)", 2 SENSE1+ (in) "The (+) Input to Each Differential Current Comparator. The ITH pin voltage and built-in offsets between SENSE- and SENSE+ pins in conjunction with RSENSE set the current trip threshold.", 3 SENSE1- (in) "The (-) Input to the Differential Current Comparators.", 4 EAIN (in) "Input to the error amplifier that compares the feedback voltage to the internal 0.8V reference voltage. This pin is normally connected to a resistive divider from the output of the differential amplifier (DIFFOUT).", 5 PLLFLTR (in) "The phase-locked loop’s lowpass filter is tied to this pin. Alternatively, this pin can be driven with an AC or DC voltage source to vary the frequency of the internal oscillator", 6 PLLIN (in) "External Synchronization Input to Phase Detector. This pin is internally terminated to SGND with 50kohm. The phase-locked loop will force the rising top gate signal of controller 1 to be synchronized with the rising edge of (See Datasheet)", 7 NC "Do not connect.", 8 ITH "Error Amplifier Output and Switching Regulator Compensation Point. Both current comparator’s thresholds increase with this control voltage. The normal voltage range of this pin is from 0V to 2.4V", 9 SGND (power) "Signal Ground. This pin is common to both controllers. Route separately to the PGND pin.", 10 VDIFFOUT (out) "Output of a Differential Amplifier. This pin provides true remote output voltage sensing. VDIFFOUT normally drives an external resistive divider that sets the output voltage.", 11 VOS- (in) "Inputs to an Operational Amplifier. Internal precision resistors capable of being electronically switched in or out can configure it as a differential amplifier or an uncommitted op amp.", 12 VOS+ (in) "Inputs to an Operational Amplifier. Internal precision resistors capable of being electronically switched in or out can configure it as a differential amplifier or an uncommitted op amp.", 13 SENSE2- (in) "The (-) Input to the Differential Current Comparators.", 14 SENSE2+ (in) "The (+) Input to Each Differential Current Comparator. The ITH pin voltage and built-in offsets between SENSE- and SENSE+ pins in conjunction with RSENSE set the current trip threshold.", 15 ATTENOUT (out) "Voltage Feedback Signal Resistively Divided According to the VID Programming Code", 16 ATTENIN (in) "The Input to the VID Controlled Resistive Divider", 17 VID0 (in) "VID Control Logic Input Pins.", 18 VID1 (in) "VID Control Logic Input Pins.", 19 VID2 (in) "VID Control Logic Input Pins.", 20 VID3 (in) "VID Control Logic Input Pins.", 21 VID4 (in) "VID Control Logic Input Pins.", 22 VBIAS (power) "Supply Pin for the VID Control Circuit.", 23 PGOOD (oc) "Open-Drain Logic Output. PGOOD is pulled to ground when the voltage on the EAIN pin is not within +/-7.5% of its set point.", 24 TG2 (out) "High Current Gate Drives for Top N-Channel MOSFETS. These are the outputs of floating drivers with a voltage swing equal to INTVCC superimposed on the switch node voltage SW.", 25 SW2 "Switch Node Connections to Inductors. Voltage swing at these pins is from a Schottky diode (external) voltage drop below ground to VIN.", 26 BOOST2 "Bootstrapped Supplies to the Topside Floating Drivers. External capacitors are connected between the BOOST and SW pins, and Schottky diodes are connected between the BOOST and INTVCC pins.", 27 BG2 (out) "High Current Gate Drives for Bottom N-Channel MOSFETS. Voltage swing at these pins is from ground to INTVCC.", 28 PGND (power) "Driver Power Ground. Connect to sources of bottom N-channel MOSFETS and the (-) terminals of CIN.", 29 INTVCC (power) "Output of the Internal 5V Linear Low Dropout Regulator and the EXTVCC Switch. The driver and control circuits are powered from this voltage source. Decouple to power ground with a 1uF ceramic capacitor placed directly (See Datasheet)", 30 EXTVCC (power) "External Power Input to an Internal Switch. This switch closes and supplies INTVCC, bypassing the internal low dropout regulator whenever EXTVCC is higher than 4.7V. See EXTVCC Connection in the Applications Information (See Datasheet)", 31 BG1 (out) "High Current Gate Drives for Bottom N-Channel MOSFETS. Voltage swing at these pins is from ground to INTVCC.", 32 VIN (power) "Main Supply Pin. Should be closely decoupled to the IC’s signal ground pin.", 33 BOOST1 "Bootstrapped Supplies to the Topside Floating Drivers. External capacitors are connected between the BOOST and SW pins, and Schottky diodes are connected between the BOOST and INTVCC pins.", 34 SW1 "Switch Node Connections to Inductors. Voltage swing at these pins is from a Schottky diode (external) voltage drop below ground to VIN.", 35 TG1 (out) "High Current Gate Drives for Top N-Channel MOSFETS. These are the outputs of floating drivers with a voltage swing equal to INTVCC superimposed on the switch node voltage SW.", 36 NC "Do not connect."